# EAGLE library part 74AHCT08 (library 74xx-logic)
IC GATE AND 4CH 2-INP 14-TSSOP
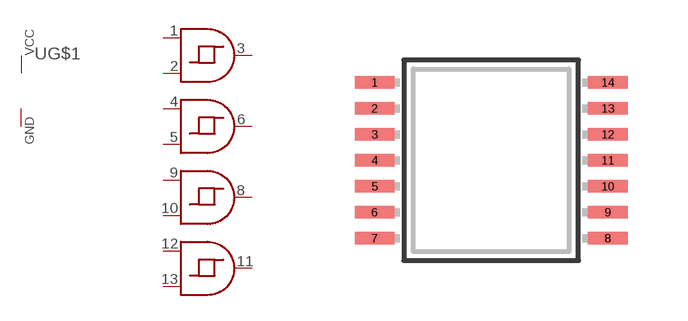
[diagram p1: symbol with the pads of TSSOP14; footprint TSSOP14]

Designator prefix U; gates G$1=PWRN G$2=AND G$3=AND G$4=AND G$5=AND

## 74AHCT08 (DIGIKEY: 296-1107-1-ND; P1I: o)  [TSSOP14]
1  G$2:A
2  G$2:B
3  G$2:Y
4  G$3:A
5  G$3:B
6  G$3:Y
7  G$1:GND  pwr
8  G$4:Y
9  G$4:A
10  G$4:B
11  G$5:Y
12  G$5:A
13  G$5:B
14  G$1:VCC  pwr

## Footprint TSSOP14 (pad centres in mm)
Thin Shrink Small Outline Plastic 14
smd 0.991 x 0.305: 1 -2.918,1.95; 2 -2.918,1.3; 3 -2.918,0.65; 4 -2.918,0; 5 -2.918,-0.65; 6 -2.918,-1.3; 7 -2.918,-1.95; 8 2.918,-1.95; 9 2.918,-1.3; 10 2.918,-0.65; 11 2.918,0; 12 2.918,0.65; 13 2.918,1.3; 14 2.918,1.95